# Altium footprint library KLORlib.PcbLib: 29 footprints (part 2 of 2)
Each footprint in its own frame and in the unit in brackets; x right, y up, seen from the top. Pads: shape width x height; smd on the part's side, far side on the other; paste and mask are expansions set on the pad; w line width, h text height; cw(c..) or ccw(c..) is an arc to the next point about the centre after c.
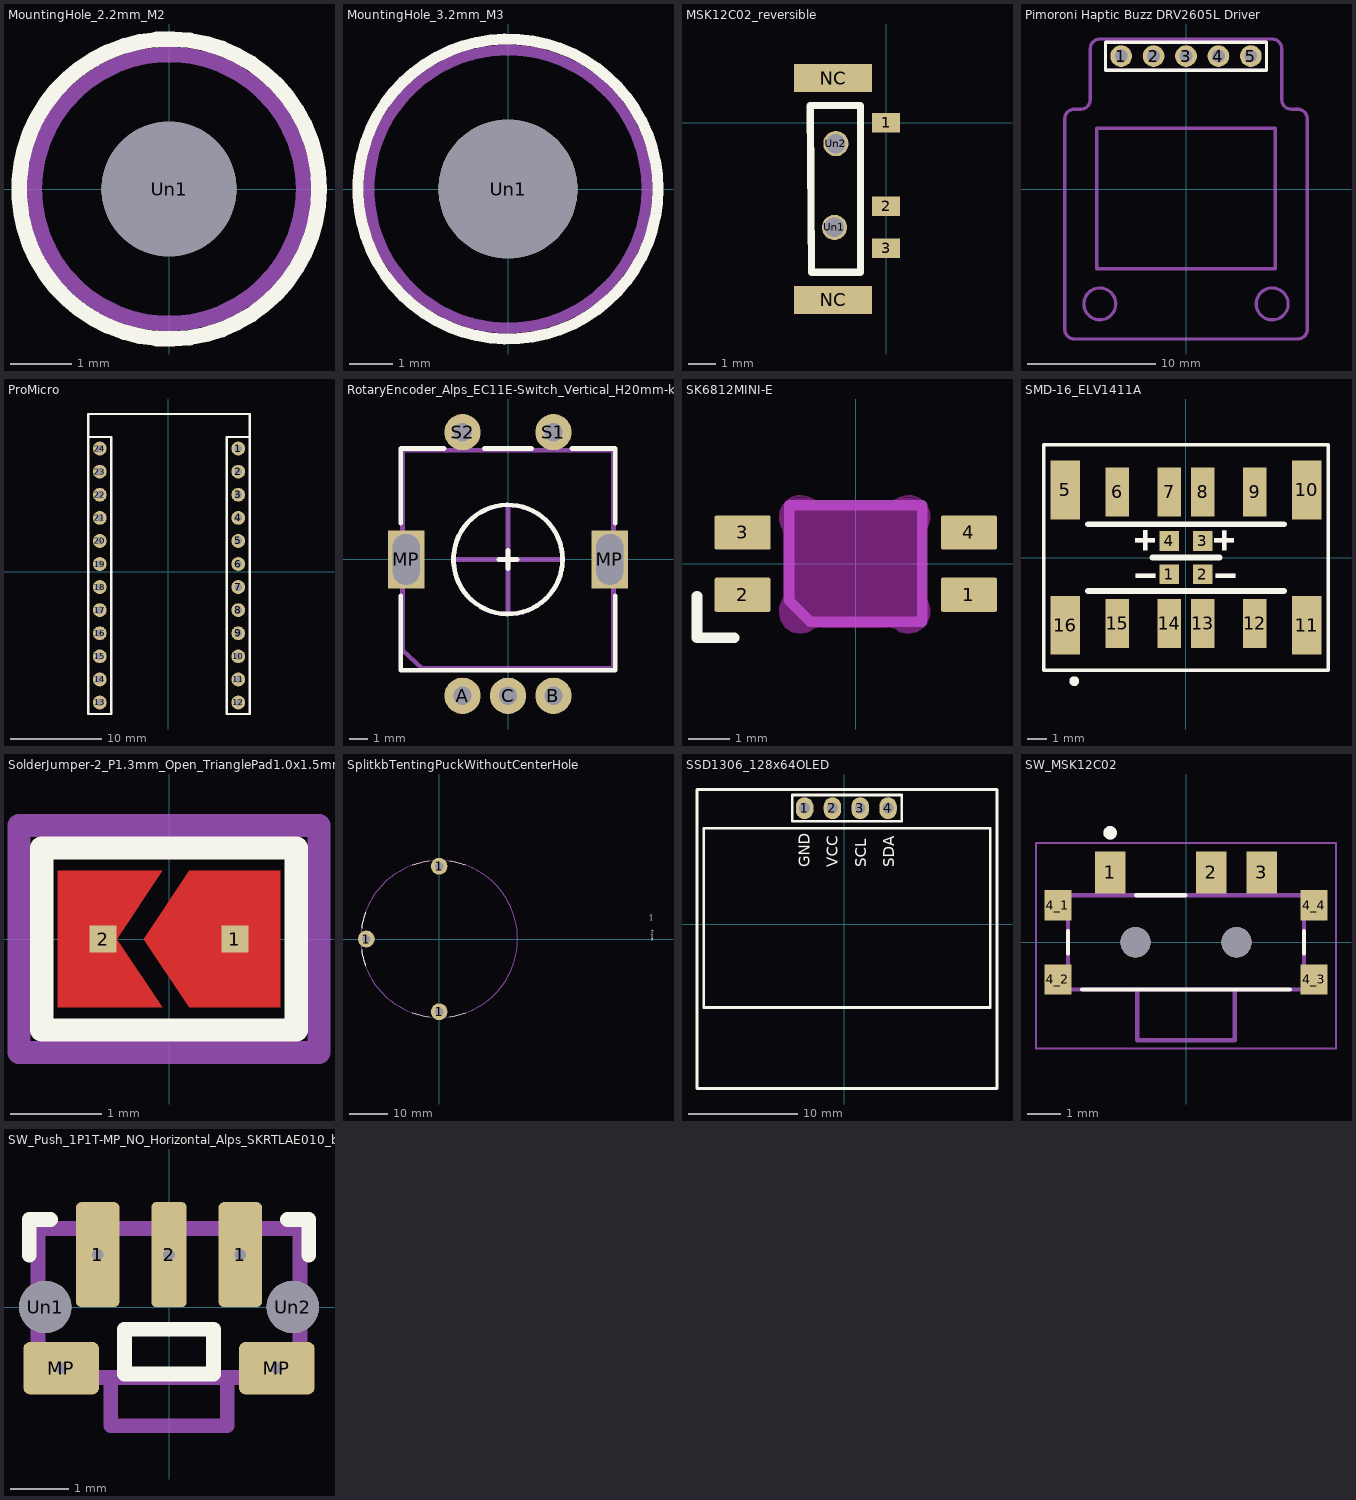
[diagram p1: the footprints below, top view; thin cyan lines are the x and y axes]

## MountingHole_2.2mm_M2 [mm]
pads (1):
  round 2.2 hole 2.2 paste-2539.97 mask+0: Un1(0,0)
Top Overlay:
  circle w0.254: c0,0 r2.45
Bottom Overlay:
  circle w0.254: c0,0 r2.45
Top 3D Body:
  circle w0.254: c0,0 r2.2
Bottom 3D Body:
  circle w0.254: c0,0 r2.2

## MountingHole_3.2mm_M3 [mm]
pads (1):
  round 3.2 hole 3.2 paste-2539.97 mask+0: Un1(0,0)
Top Overlay:
  circle w0.254: c0,0 r3.45
Bottom Overlay:
  circle w0.254: c0,0 r3.45
Top 3D Body:
  circle w0.254: c0,0 r3.2
Bottom 3D Body:
  circle w0.254: c0,0 r3.2

## MSK12C02_reversible [mm]
pads (7):
  rect 1x0.7 smd mask+0: 1(0,0) 2(0,-3) 3(0,-4.5)
  rect 2.8x1 smd mask+0: NC(-1.9,-6.35) NC(-1.9,1.6)
  round 0.9 hole 0.7 paste-2539.97 mask+0: Un1(-1.85,-3.75) Un2(-1.8,-0.75)
Top Overlay:
  lines w0.254: -2.716,0.611 -2.672,-5.358 -0.914,-5.358 -0.914,0.611 -2.716,0.611
3D body "MSK12C02--3DModel-STEP-740413.STEP": height 1.51, standoff -0.54, extent -4.65,-6.225 0.5,1.775

## Pimoroni Haptic Buzz DRV2605L Driver [mm]
pads (5):
  round 1.7 hole 1 paste-2539.97 mask+0: 1(-5.08,10.414)
  rrect100% 1.7x1.7 hole 1 paste-2539.97 mask+0: 2(-2.54,10.414) 3(0,10.414) 4(2.54,10.414) 5(5.08,10.414)
Top Overlay:
  lines w0.254: -6.3,9.3 -6.3,11.5 6.3,11.5 6.3,9.3 -6.3,9.3
Mechanical 4:
  lines w0.254: -6.3,9.3 -6.3,11.5 6.3,11.5 6.3,9.3 -6.3,9.3
Top 3D Body:
  circle w0.254: c6.75,-9 r1.25
  circle w0.254: c-6.75,-9 r1.25
  lines w0.254: -9.5,-11 ccw(c-8.75,-11) -8.75,-11.75 8.75,-11.75 ccw(c8.75,-11) 9.5,-11 9.5,5.5 ccw(c8.75,5.5) 8.75,6.25 8.25,6.25 cw(c8.25,7) 7.5,7 7.5,11 ccw(c6.75,11) 6.75,11.75 -6.75,11.75 ccw(c-6.75,11) -7.5,11 -7.5,7 cw(c-8.25,7) -8.25,6.25 -8.75,6.25 ccw(c-8.75,5.5) -9.5,5.5 -9.5,-11 ; -7,-6.25 7,-6.25 7,4.75 -7,4.75 -7,-6.25
Mechanical 20:
  text "'.Designator'" at 0.364,4.851 h1
3D body "PIM452.step": height 1.61, standoff -2.49, extent -9.5,-11.727 9.5,11.773

## ProMicro [mil]
pads (24):
  round 60 hole 32 paste-99999 mask+0: 1(303.89,534.42) 2(303.89,434.42) 3(303.89,334.42) 4(303.89,234.42) 5(303.89,134.42) 6(303.89,34.42) 7(303.89,-65.58) 8(303.89,-165.58) 9(303.89,-265.58) 10(303.89,-365.58) 11(303.89,-465.58) 12(303.89,-565.58) 13(-296.11,-565.58) 14(-296.11,-465.58) 15(-296.11,-365.58) 16(-296.11,-265.58) 17(-296.11,-165.58) 18(-296.11,-65.58) 19(-296.11,34.42) 20(-296.11,134.42) 21(-296.11,234.42) 22(-296.11,334.42) 23(-296.11,434.42) 24(-296.11,534.42)
Top Overlay:
  lines w10: -346.11,584.42 -246.11,584.42 -246.11,-615.58 -346.11,-615.58 -346.11,684.42 353.89,684.42 353.89,-615.58 ; 353.89,-615.58 353.89,584.42 253.89,584.42 253.89,-615.58 353.89,-615.58
3D body "nice!nano v2.step": height 129.76, standoff 0.5, extent -346.5,-623.45 354.29,721.31

## RotaryEncoder_Alps_EC11E-Switch_Vertical_H20mm-keebio_modified [mm]
pads (7):
  round 2 hole 1 paste-2539.97 mask+0: A(-2.5,-7.5) B(2.5,-7.5) C(0,-7.5) S1(2.5,7) S2(-2.5,7)
  rect 2x3.2 hole 1.5 slot 2.8 at 90 deg paste-2539.97 mask+0: MP(-5.6,0) MP(5.6,0)
Top Overlay:
  circle w0.254: c0,0 r3
  lines w0.254: -5.9,-2 -5.9,-6.1 5.9,-6.1 5.9,-2 ; -5.9,2 -5.9,6.1 -3.5,6.1 ; -1.3,6.1 1.3,6.1 ; -0.5,0 0.5,0 ; 0,-0.5 0,0.5 ; 3.5,6.1 5.9,6.1 5.9,2
Mechanical 19:
  circle w0.254: c0,0 r3
  lines w0.254: -3,0 3,0 ; 0,-3 0,3 ; -5.8,-5 -5.8,6 5.8,6 5.8,-6 -4.7,-6 -5.8,-5
3D body "EC11N1525404.STEP": height 19.51, standoff -3.49, extent -6.549,-7.725 6.549,7.225

## SK6812MINI-E [mm]
pads (4):
  rrect10% 1.35x0.82 smd mask+0: 1(2.725,-0.75) 2(-2.725,-0.75) 3(-2.725,0.75) 4(2.725,0.75)
Top Overlay:
  lines w0.254: -3.822,-0.789 -3.822,-1.789 -2.922,-1.789
Keep-Out Layer:
  board cut-out: 1.661,-0.746 1.661,0.659 1.651,0.659 1.69,0.855 1.706,0.878 1.715,0.874 1.731,0.898 1.77,1.093 1.731,1.288 1.62,1.454 1.455,1.564 1.26,1.603 1.065,1.564 1.007,1.526 1.008,1.525 1.008,1.524 0.95,1.486 0.755,1.447 0.755,1.457 -0.834,1.457 -0.834,1.447 -1.029,1.486 -1.086,1.524 -1.085,1.526 -1.143,1.564 -1.338,1.603 -1.533,1.564 -1.699,1.454 -1.809,1.288 -1.848,1.093 -1.809,0.898 -1.793,0.874 -1.789,0.876 -1.784,0.878 -1.768,0.855 -1.729,0.659 -1.739,0.659 -1.739,-0.746 -1.729,-0.746 -1.768,-0.941 -1.784,-0.965 -1.789,-0.963 -1.793,-0.961 -1.809,-0.985 -1.848,-1.18 -1.809,-1.375 -1.699,-1.54 -1.533,-1.651 -1.338,-1.69 -1.143,-1.651 -1.085,-1.612 -1.086,-1.611 -1.029,-1.572 -0.834,-1.534 -0.834,-1.543 0.755,-1.543 0.755,-1.534 0.95,-1.572 1.008,-1.611 1.007,-1.612 1.065,-1.651 1.26,-1.69 1.455,-1.651 1.62,-1.54 1.731,-1.375 1.77,-1.18 1.731,-0.985 1.715,-0.961 1.706,-0.965 1.69,-0.941 1.651,-0.746
Keep-Out Layer:
  lines w0.05: -1.776,0.911 cw(c-2.227,0.694) -1.726,0.694 -1.726,-0.712 ; -1.776,0.911 cw(c-1.325,1.128) -1.073,1.559 ccw(c-0.821,1.991) -0.821,1.491 ; -1.776,0.911 -1.776,0.911 ; -1.726,-0.712 cw(c-2.227,-0.712) -1.776,-0.929 ccw(c-1.325,-1.146) -1.073,-1.577 cw(c-0.821,-2.009) -0.821,-1.509 ; -1.726,-0.712 -1.726,-0.712 ; -0.821,-1.509 -0.821,-1.509 ; -0.821,-1.509 0.768,-1.509 ; -0.821,1.491 -0.821,1.491 ; -0.821,1.491 0.768,1.491 ; 0.768,-1.509 cw(c0.768,-2.009) 1.02,-1.577 ccw(c1.272,-1.146) 1.723,-0.929 cw(c2.173,-0.712) 1.674,-0.712 1.674,0.694 cw(c2.173,0.694) 1.723,0.911 ccw(c1.272,1.128) 1.02,1.559 ; 0.768,-1.509 0.768,-1.509 ; 0.768,1.491 ccw(c0.768,1.991) 1.02,1.559 ; 0.768,1.491 0.768,1.491 ; 1.02,1.559 1.02,1.559
Top 3D Body:
  lines w0.254: -1.6,-0.9 -1.6,1.4 1.6,1.4 1.6,-1.4 -1.1,-1.4 -1.6,-0.9
3D body "LED_SK6812MINI-E.step": height 0.95, standoff -0.83, extent -2.94,-1.4 2.94,1.4

## SMD-16_ELV1411A [mm]
pads (16):
  rect 1x1 smd paste+0 mask+0.051: 1(-0.85,-0.85) 2(0.85,-0.85) 3(0.85,0.85) 4(-0.85,0.85)
  rect 1.5x3 smd paste+0 mask+0.051: 5(-6.15,3.45) 10(6.15,3.45) 11(6.15,-3.45) 16(-6.15,-3.45)
  rect 1.2x2.5 smd paste+0 mask+0.051: 6(-3.5,3.35) 7(-0.85,3.35) 8(0.85,3.35) 9(3.5,3.35) 12(3.5,-3.35) 13(0.85,-3.35) 14(-0.85,-3.35) 15(-3.5,-3.35)
Top Overlay:
  circle w0.3: c-5.7,-6.3 r0.1
  region: 1.509,-0.833 2.509,-0.833 2.509,-1.033 1.509,-1.033
  region: -2.567,-0.83 -1.567,-0.83 -1.567,-1.03 -2.567,-1.03
  region: 1.438,0.983 2.438,0.983 2.438,0.783 1.438,0.783
  region: 1.857,0.383 1.857,1.383 2.057,1.383 2.057,0.383
  region: -2.6,0.989 -1.6,0.989 -1.6,0.789 -2.6,0.789
  region: -2.182,0.389 -2.182,1.389 -1.982,1.389 -1.982,0.389
  lines w0.178: -7.25,-5.75 -7.25,5.75 7.25,5.75 7.25,-5.75 -7.25,-5.75
  lines w0.3: -5,-1.7 5,-1.7 ; -5,1.7 5,1.7 ; -1.7,0 0,0 1.7,0
Top Courtyard:
  region: 1.511,-0.826 2.511,-0.826 2.511,-1.026 1.511,-1.026
  region: -2.565,-0.824 -1.565,-0.824 -1.565,-1.024 -2.565,-1.024
  region: 1.44,0.99 2.44,0.99 2.44,0.79 1.44,0.79
  region: 1.858,0.39 1.858,1.39 2.058,1.39 2.058,0.39
  region: -2.599,0.995 -1.599,0.995 -1.599,0.795 -2.599,0.795
  region: -2.181,0.395 -2.181,1.395 -1.981,1.395 -1.981,0.395
3D body: height 2.5, standoff 0, extent -7.25,-5.75 7.25,5.75

## SolderJumper-2_P1.3mm_Open_TrianglePad1.0x1.5mm [mm]
pads (2):
  rect 0.3x0.3 smd paste-0.3 mask+0: 1(0.725,0) 2(-0.725,0)
Top Layer:
  region: -1.225,-0.75 -0.075,-0.75 -0.575,0 -0.075,0.75 -1.225,0.75
  region: -0.275,0 0.225,-0.75 1.225,-0.75 1.225,0.75 0.225,0.75
Top Overlay:
  lines w0.254: -1.4,-1 1.4,-1 1.4,1 -1.4,1 -1.4,-1
Top Solder:
  region: -1.225,-0.75 -0.075,-0.75 -0.575,0 -0.075,0.75 -1.225,0.75
  region: -0.275,0 0.225,-0.75 1.225,-0.75 1.225,0.75 0.225,0.75
Mechanical 3:
  lines w0.254: -1.65,-1.25 1.65,-1.25 1.65,1.25 -1.65,1.25 -1.65,-1.25

## SplitkbTentingPuckWithoutCenterHole [mm]
pads (3):
  round 4.4 hole 2.2 paste-2539.97 mask+0: 1(-19.05,0) 1(0,-19.05) 1(0,19.05)
Top Overlay:
  lines w0.254: -20.32,-2.858 ccw(c0,0) -19.286,-7.008 ; -20.32,2.857 cw(c0,0) -19.286,7.008 ; -7.008,-19.286 ccw(c0,0) -2.857,-20.32 ; -7.008,19.286 cw(c0,0) -2.857,20.32 ; 2.858,-20.32 ccw(c0,0) 7.008,-19.286 ; 2.858,20.32 cw(c0,0) 7.008,19.286
  text "tenting" at 56.359,-0.517 h1
  text "puck" at 56.141,4.672 h1
Bottom Overlay:
  lines w0.254: -20.32,-2.857 ccw(c0,0) -19.286,-7.008 ; -20.32,2.857 cw(c0,0) -19.286,7.008 ; -7.008,-19.286 ccw(c0,0) -2.858,-20.32 ; -7.008,19.286 cw(c0,0) -2.857,20.32 ; 2.858,-20.32 ccw(c0,0) 7.008,-19.286 ; 2.857,20.32 cw(c0,0) 7.008,19.286
Mechanical 2:
  circle w0.254: c0,0 r20.55

## SSD1306_128x64OLED [mm]
pads (4):
  rrect100% 1.6x2 hole 1 paste-2539.97 mask+0: 1(-3.62,10.6) 2(-1.08,10.6) 3(1.46,10.6) 4(4,10.6)
Top Overlay:
  lines w0.254: -13.45,-15 -13.45,12.3 13.95,12.3 13.95,-15 -13.45,-15 ; -12.827,-7.6 -12.827,8.763 13.335,8.763 13.335,-7.6 -12.827,-7.6 ; -4.75,9.4 -4.75,11.8 5.25,11.8 5.25,9.4 -4.75,9.4
  text "SDA" at 4.572,5.207 h1
  text "SCL" at 1.99,5.207 h1
  text "VCC" at -0.593,5.207 h1
  text "GND" at -3.175,5.207 h1
3D body "OLED-128x64-0.96.step": height 5.02, standoff -5.83, extent -13.155,-14.905 13.545,12.955

## SW_MSK12C02 [mm]
height 1.5
pads (9):
  rect 0.9x1.25 smd paste+0 mask+0.102: 1(-2.25,2.075) 2(0.75,2.075) 3(2.25,2.075)
  rect 0.8x0.9 smd paste+0 mask+0.102: 4_1(-3.8,1.1) 4_2(-3.8,-1.1) 4_3(3.8,-1.1) 4_4(3.8,1.1)
  round 0.9 hole 0.9 unplated mask+0: ""(-1.5,0) ""(1.5,0)
Top Overlay:
  circle w0.2: c-2.25,3.25 r0.1
  lines w0.127: -3.5,-0.33 -3.5,0.33 ; -3.08,-1.4 3.08,-1.4 ; -1.48,1.4 -0.02,1.4 ; 3.5,-0.33 3.5,0.33
Mechanical 13:
  circle w0.2: c-2.25,3.25 r0.1
  lines w0.127: -1.45,-1.4 1.45,-1.4 ; -1.45,-1.4 -3.5,-1.4 -3.5,1.4 3.5,1.4 3.5,-1.4 1.45,-1.4 ; -1.45,-1.4 -1.45,-2.9 1.45,-2.9 1.45,-1.4
Top Courtyard:
  lines w0.05: -4.45,-3.15 4.45,-3.15 4.45,2.95 -4.45,2.95 -4.45,-3.15
3D body "step_temp.STEP": height 1.5, standoff -0.55, extent -4,-2.75 4,2.4

## SW_Push_1P1T-MP_NO_Horizontal_Alps_SKRTLAE010_both_sides [mm]
pads (7):
  rrect25% 0.75x1.8 hole 0.2 mask+0: 1(-1.225,0.9) 1(1.225,0.9)
  rrect25% 0.6x1.8 hole 0.2 mask+0: 2(0,0.9)
  rrect25% 1.3x0.9 hole 0.2 mask+0: MP(-1.85,-1.05) MP(1.85,-1.05)
  round 0.9 hole 0.9 paste-2539.97 mask+0: Un1(-2.125,0) Un2(2.125,0)
Top Overlay:
  lines w0.254: -2.4,0.889 -2.4,1.5 -2.032,1.5 ; 2.032,1.5 2.4,1.5 2.4,0.889 ; -0.762,-1.151 -0.762,-0.381 0.762,-0.381 0.762,-1.151 -0.762,-1.151
Top 3D Body:
  lines w0.254: -1,-1.21 -1,-2.04 1,-2.04 1,-1.21 ; -2.25,-1.21 2.25,-1.21 2.25,1.35 -2.25,1.35 -2.25,-1.21
Mechanical 19:
  text "'.Designator'" at 1.858,-5.756 h1
3D body "SKRTLAE010--3DModel-STEP-56544.STEP": height 3.31, standoff -0.44, extent -2.25,-2.05 2.25,1.5